# Altium schematic symbol library kmilo17pet-Maxim_Sensors.SchLib: 1172 symbols (part 31 of 61)
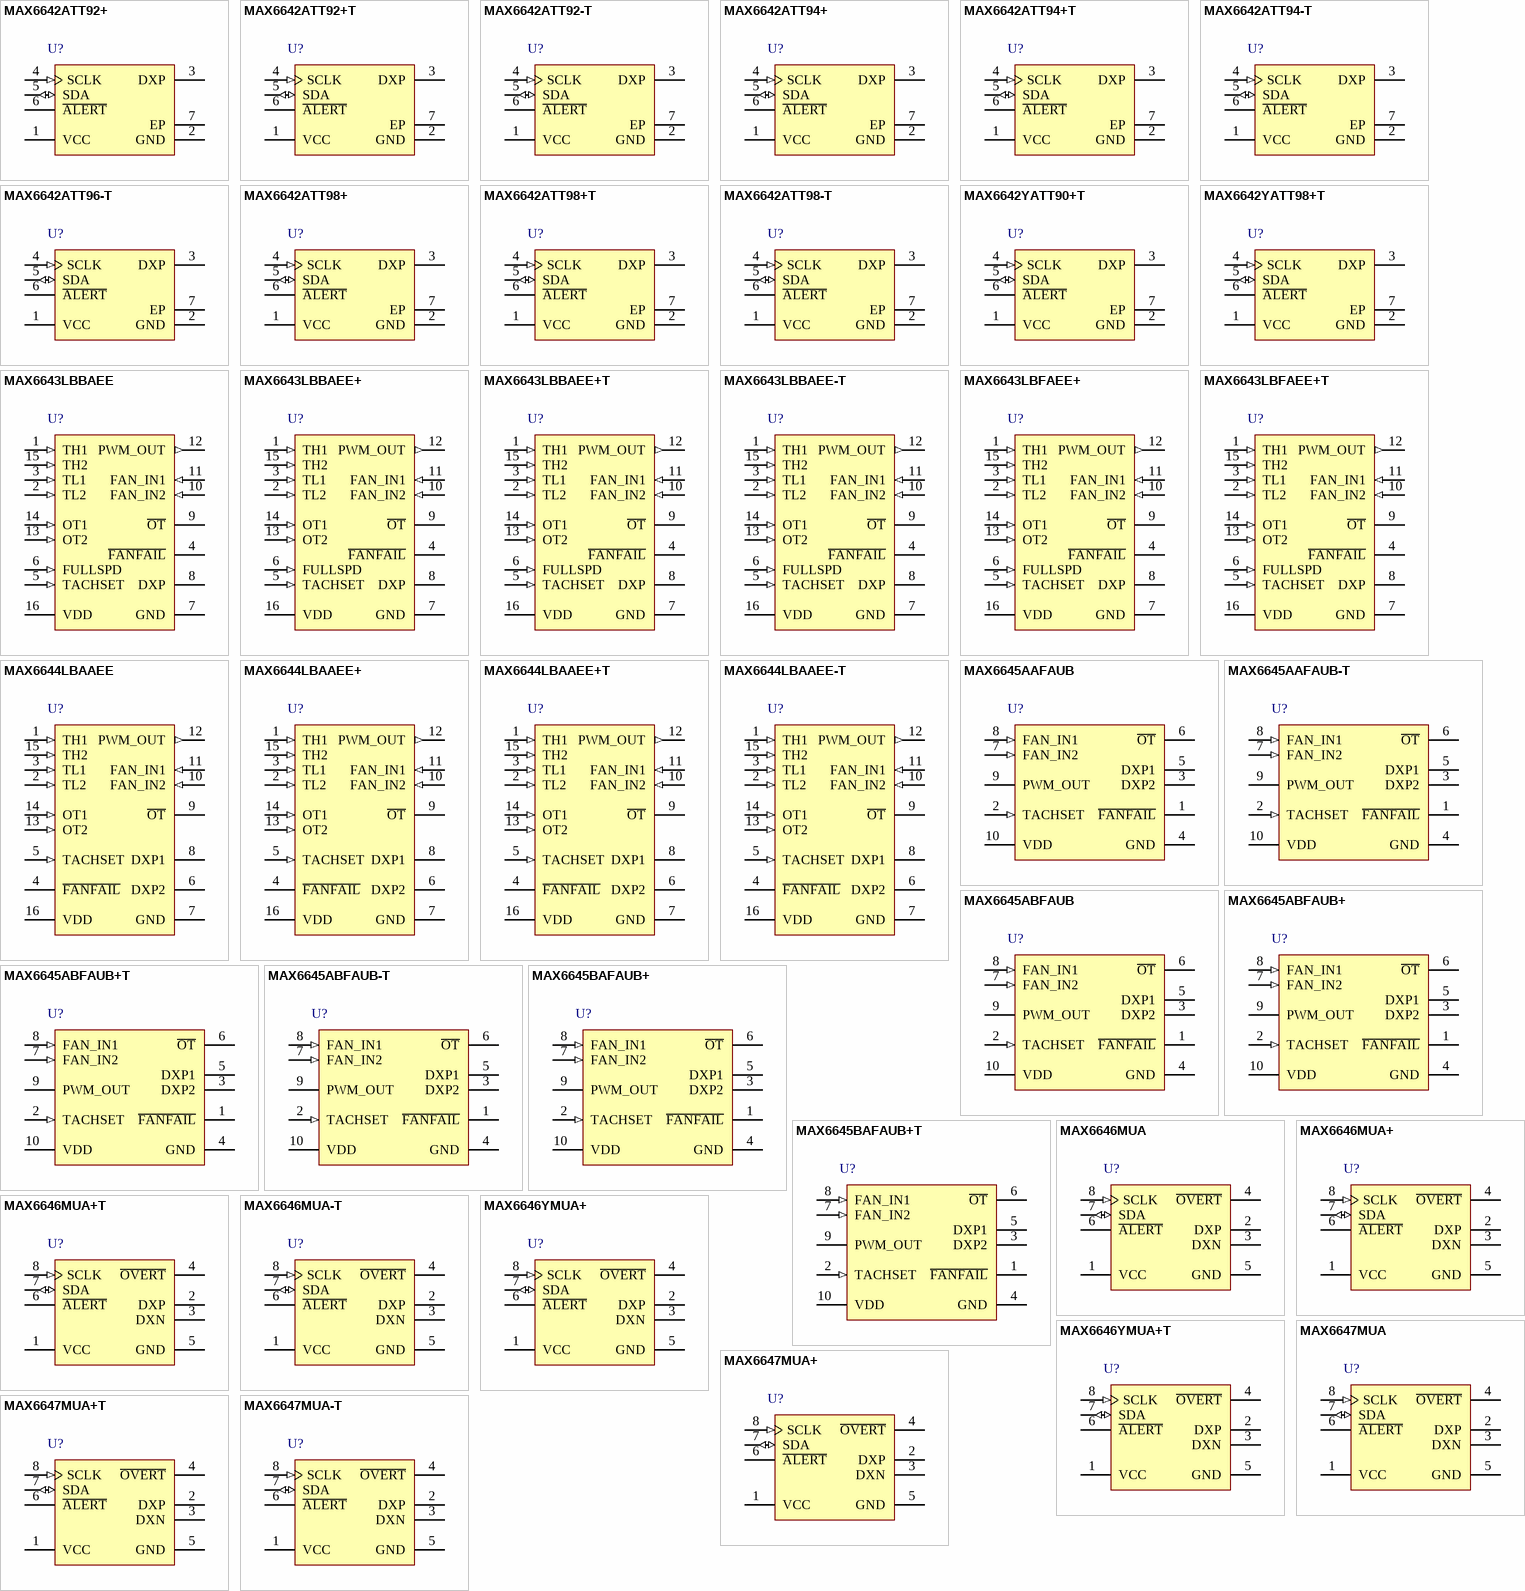
[diagram p63: symbols MAX6642ATT92+ to MAX6647MUA-T]

## MAX6642ATT92+
designator U?
+ / -1 degC, SMBus-Compatible Remote / Local Temperature Sensor with Overtemperature Alarm, 10 Bits Temperature Resolution, -40 to 125 degC, 6-Pin SON (T633+2), Pb-Free; Generic Part Number: MAX6642; PartNumber: MAX6642ATT92+; Alarm Output: Alert; Functions: Remote & Local Sensor, Single Temperature Alarm; Interface: 2-Wire/I2C/SMBus; Parasite Pwr.: No; DatasheetVersion: Rev. 3; PackageVersion: Rev. J, 08/2009; PackageReference: T633+2; PackageDescription: 6-Pin Plastic Very Very Thin Dual Flatpack No Leads, Exposed Pad, Body 3 x 3 mm, Exposed Pad 2.3 x 1.5 mm, Pitch 0.95 mm; Supplier 1: Mouser; Supplier Part Number 1: N/A; Mounting Technology: Surface Mount; Code_JEDEC: MO-229; ComponentLink1Description: Manufacturer URL; ComponentLink1URL: http://www.maximintegrated.com/; ComponentLink2Description: Datasheet; ComponentLink2URL: http://datasheets.maximintegrated.com/en/ds/MAX6642.pdf; ComponentLink3Description: Package Specification; ComponentLink3URL: http://pdfserv.maximintegrated.com/package_dwgs/21-0137.PDF
footprint MAXM-T633+2_V (SON, 6-Leads, Body 3x3mm, Pitch 0.95mm, Thermal Pad 2.3X1.5mm)
pins: 1 VCC (power) "Supply Voltage Input, +3V to +5.5V. Bypass VCC to GND with a 0.1uF capacitor. A 47ohm series resistor is recommended but not required for additional noise filtering.", 2 GND (power) "Ground", 3 DXP "Combined Remote-Diode Current Source and ADC Input for Remote-Diode Channel. Place a 2200pF capacitor between DXP and GND for noise filtering.", 4 SCLK (in) "SMBus Serial-Clock Input. May be pulled up to +5.5V regardless of VCC.", 5 SDA (io) "SMBus Serial-Data Input/Output, Open Drain. May be pulled up to +5.5V regardless of VCC.", 6 ~{ALERT} (oc) "SMBus Alert (Interrupt) Output, Open Drain. A\L\E\R\T\ asserts when temperature exceeds user-set limits. See the A\L\E\R\T\ Interrupts section.", 7 EP (power) "Exposed Pad. Internally connected to GND. Connect to a PCB ground pad for optimal performance. Not intended as an electrical connection point."

## MAX6642ATT92+T
designator U?
+ / -1 degC, SMBus-Compatible Remote / Local Temperature Sensor with Overtemperature Alarm, 10 Bits Temperature Resolution, -40 to 125 degC, 6-Pin SON (T633+2), Pb-Free, Tape and Reel; Generic Part Number: MAX6642; PartNumber: MAX6642ATT92+T; Alarm Output: Alert; Functions: Remote & Local Sensor, Single Temperature Alarm; Interface: 2-Wire/I2C/SMBus; Parasite Pwr.: No; DatasheetVersion: Rev. 3; PackageVersion: Rev. J, 08/2009; PackageReference: T633+2; PackageDescription: 6-Pin Plastic Very Very Thin Dual Flatpack No Leads, Exposed Pad, Body 3 x 3 mm, Exposed Pad 2.3 x 1.5 mm, Pitch 0.95 mm; Supplier 1: Digi-Key; Supplier Part Number 1: MAX6642ATT92+TTR-ND; Supplier 2: Digi-Key; Supplier Part Number 2: MAX6642ATT92+TCT-ND; Supplier 3: Digi-Key; Supplier Part Number 3: MAX6642ATT92+TDKR-ND; Supplier 4: Mouser; Supplier Part Number 4: 700-MAX6642ATT92T; Packing: Tape and Reel; Mounting Technology: Surface Mount; Code_JEDEC: MO-229; ComponentLink1Description: Manufacturer URL; ComponentLink1URL: http://www.maximintegrated.com/; ComponentLink2Description: Datasheet; ComponentLink2URL: http://datasheets.maximintegrated.com/en/ds/MAX6642.pdf; ComponentLink3Description: Package Specification; ComponentLink3URL: http://pdfserv.maximintegrated.com/package_dwgs/21-0137.PDF
footprint MAXM-T633+2_V (SON, 6-Leads, Body 3x3mm, Pitch 0.95mm, Thermal Pad 2.3X1.5mm)
pins: 1 VCC (power) "Supply Voltage Input, +3V to +5.5V. Bypass VCC to GND with a 0.1uF capacitor. A 47ohm series resistor is recommended but not required for additional noise filtering.", 2 GND (power) "Ground", 3 DXP "Combined Remote-Diode Current Source and ADC Input for Remote-Diode Channel. Place a 2200pF capacitor between DXP and GND for noise filtering.", 4 SCLK (in) "SMBus Serial-Clock Input. May be pulled up to +5.5V regardless of VCC.", 5 SDA (io) "SMBus Serial-Data Input/Output, Open Drain. May be pulled up to +5.5V regardless of VCC.", 6 ~{ALERT} (oc) "SMBus Alert (Interrupt) Output, Open Drain. A\L\E\R\T\ asserts when temperature exceeds user-set limits. See the A\L\E\R\T\ Interrupts section.", 7 EP (power) "Exposed Pad. Internally connected to GND. Connect to a PCB ground pad for optimal performance. Not intended as an electrical connection point."

## MAX6642ATT92-T
designator U?
+ / -1 degC, SMBus-Compatible Remote / Local Temperature Sensor with Overtemperature Alarm, 10 Bits Temperature Resolution, -40 to 125 degC, 6-Pin SON (T633-2), Tape and Reel; Generic Part Number: MAX6642; PartNumber: MAX6642ATT92-T; Alarm Output: Alert; Functions: Remote & Local Sensor, Single Temperature Alarm; Interface: 2-Wire/I2C/SMBus; Parasite Pwr.: No; DatasheetVersion: Rev. 3; PackageVersion: Rev. J, 08/2009; PackageReference: T633-2; PackageDescription: 6-Pin Plastic Very Very Thin Dual Flatpack No Leads, Exposed Pad, Body 3 x 3 mm, Exposed Pad 2.3 x 1.5 mm, Pitch 0.95 mm; Supplier 1: Mouser; Supplier Part Number 1: N/A; Packing: Tape and Reel; Mounting Technology: Surface Mount; Code_JEDEC: MO-229; ComponentLink1Description: Manufacturer URL; ComponentLink1URL: http://www.maximintegrated.com/; ComponentLink2Description: Datasheet; ComponentLink2URL: http://datasheets.maximintegrated.com/en/ds/MAX6642.pdf; ComponentLink3Description: Package Specification; ComponentLink3URL: http://pdfserv.maximintegrated.com/package_dwgs/21-0137.PDF
footprint MAXM-T633-2_V (SON, 6-Leads, Body 3x3mm, Pitch 0.95mm, Thermal Pad 1.5x2.3mm)
pins: 1 VCC (power) "Supply Voltage Input, +3V to +5.5V. Bypass VCC to GND with a 0.1uF capacitor. A 47ohm series resistor is recommended but not required for additional noise filtering.", 2 GND (power) "Ground", 3 DXP "Combined Remote-Diode Current Source and ADC Input for Remote-Diode Channel. Place a 2200pF capacitor between DXP and GND for noise filtering.", 4 SCLK (in) "SMBus Serial-Clock Input. May be pulled up to +5.5V regardless of VCC.", 5 SDA (io) "SMBus Serial-Data Input/Output, Open Drain. May be pulled up to +5.5V regardless of VCC.", 6 ~{ALERT} (oc) "SMBus Alert (Interrupt) Output, Open Drain. A\L\E\R\T\ asserts when temperature exceeds user-set limits. See the A\L\E\R\T\ Interrupts section.", 7 EP (power) "Exposed Pad. Internally connected to GND. Connect to a PCB ground pad for optimal performance. Not intended as an electrical connection point."

## MAX6642ATT94+
designator U?
+ / -1 degC, SMBus-Compatible Remote / Local Temperature Sensor with Overtemperature Alarm, 10 Bits Temperature Resolution, -40 to 125 degC, 6-Pin SON (T633+2), Pb-Free; Generic Part Number: MAX6642; PartNumber: MAX6642ATT94+; Alarm Output: Alert; Functions: Remote & Local Sensor, Single Temperature Alarm; Interface: 2-Wire/I2C/SMBus; Parasite Pwr.: No; DatasheetVersion: Rev. 3; PackageVersion: Rev. J, 08/2009; PackageReference: T633+2; PackageDescription: 6-Pin Plastic Very Very Thin Dual Flatpack No Leads, Exposed Pad, Body 3 x 3 mm, Exposed Pad 2.3 x 1.5 mm, Pitch 0.95 mm; Supplier 1: Mouser; Supplier Part Number 1: N/A; Mounting Technology: Surface Mount; Code_JEDEC: MO-229; ComponentLink1Description: Manufacturer URL; ComponentLink1URL: http://www.maximintegrated.com/; ComponentLink2Description: Datasheet; ComponentLink2URL: http://datasheets.maximintegrated.com/en/ds/MAX6642.pdf; ComponentLink3Description: Package Specification; ComponentLink3URL: http://pdfserv.maximintegrated.com/package_dwgs/21-0137.PDF
footprint MAXM-T633+2_V (SON, 6-Leads, Body 3x3mm, Pitch 0.95mm, Thermal Pad 2.3X1.5mm)
pins: 1 VCC (power) "Supply Voltage Input, +3V to +5.5V. Bypass VCC to GND with a 0.1uF capacitor. A 47ohm series resistor is recommended but not required for additional noise filtering.", 2 GND (power) "Ground", 3 DXP "Combined Remote-Diode Current Source and ADC Input for Remote-Diode Channel. Place a 2200pF capacitor between DXP and GND for noise filtering.", 4 SCLK (in) "SMBus Serial-Clock Input. May be pulled up to +5.5V regardless of VCC.", 5 SDA (io) "SMBus Serial-Data Input/Output, Open Drain. May be pulled up to +5.5V regardless of VCC.", 6 ~{ALERT} (oc) "SMBus Alert (Interrupt) Output, Open Drain. A\L\E\R\T\ asserts when temperature exceeds user-set limits. See the A\L\E\R\T\ Interrupts section.", 7 EP (power) "Exposed Pad. Internally connected to GND. Connect to a PCB ground pad for optimal performance. Not intended as an electrical connection point."

## MAX6642ATT94+T
designator U?
+ / -1 degC, SMBus-Compatible Remote / Local Temperature Sensor with Overtemperature Alarm, 10 Bits Temperature Resolution, -40 to 125 degC, 6-Pin SON (T633+2), Pb-Free, Tape and Reel; Generic Part Number: MAX6642; PartNumber: MAX6642ATT94+T; Alarm Output: Alert; Functions: Remote & Local Sensor, Single Temperature Alarm; Interface: 2-Wire/I2C/SMBus; Parasite Pwr.: No; DatasheetVersion: Rev. 3; PackageVersion: Rev. J, 08/2009; PackageReference: T633+2; PackageDescription: 6-Pin Plastic Very Very Thin Dual Flatpack No Leads, Exposed Pad, Body 3 x 3 mm, Exposed Pad 2.3 x 1.5 mm, Pitch 0.95 mm; Supplier 1: Digi-Key; Supplier Part Number 1: MAX6642ATT94+T-ND; Supplier 2: Mouser; Supplier Part Number 2: 700-MAX6642ATT94+T; Packing: Tape and Reel; Mounting Technology: Surface Mount; Code_JEDEC: MO-229; ComponentLink1Description: Manufacturer URL; ComponentLink1URL: http://www.maximintegrated.com/; ComponentLink2Description: Datasheet; ComponentLink2URL: http://datasheets.maximintegrated.com/en/ds/MAX6642.pdf; ComponentLink3Description: Package Specification; ComponentLink3URL: http://pdfserv.maximintegrated.com/package_dwgs/21-0137.PDF
footprint MAXM-T633+2_V (SON, 6-Leads, Body 3x3mm, Pitch 0.95mm, Thermal Pad 2.3X1.5mm)
pins: 1 VCC (power) "Supply Voltage Input, +3V to +5.5V. Bypass VCC to GND with a 0.1uF capacitor. A 47ohm series resistor is recommended but not required for additional noise filtering.", 2 GND (power) "Ground", 3 DXP "Combined Remote-Diode Current Source and ADC Input for Remote-Diode Channel. Place a 2200pF capacitor between DXP and GND for noise filtering.", 4 SCLK (in) "SMBus Serial-Clock Input. May be pulled up to +5.5V regardless of VCC.", 5 SDA (io) "SMBus Serial-Data Input/Output, Open Drain. May be pulled up to +5.5V regardless of VCC.", 6 ~{ALERT} (oc) "SMBus Alert (Interrupt) Output, Open Drain. A\L\E\R\T\ asserts when temperature exceeds user-set limits. See the A\L\E\R\T\ Interrupts section.", 7 EP (power) "Exposed Pad. Internally connected to GND. Connect to a PCB ground pad for optimal performance. Not intended as an electrical connection point."

## MAX6642ATT94-T
designator U?
+ / -1 degC, SMBus-Compatible Remote / Local Temperature Sensor with Overtemperature Alarm, 10 Bits Temperature Resolution, -40 to 125 degC, 6-Pin SON (T633-2), Tape and Reel; Generic Part Number: MAX6642; PartNumber: MAX6642ATT94-T; Alarm Output: Alert; Functions: Remote & Local Sensor, Single Temperature Alarm; Interface: 2-Wire/I2C/SMBus; Parasite Pwr.: No; DatasheetVersion: Rev. 3; PackageVersion: Rev. J, 08/2009; PackageReference: T633-2; PackageDescription: 6-Pin Plastic Very Very Thin Dual Flatpack No Leads, Exposed Pad, Body 3 x 3 mm, Exposed Pad 2.3 x 1.5 mm, Pitch 0.95 mm; Supplier 1: Mouser; Supplier Part Number 1: N/A; Packing: Tape and Reel; Mounting Technology: Surface Mount; Code_JEDEC: MO-229; ComponentLink1Description: Manufacturer URL; ComponentLink1URL: http://www.maximintegrated.com/; ComponentLink2Description: Datasheet; ComponentLink2URL: http://datasheets.maximintegrated.com/en/ds/MAX6642.pdf; ComponentLink3Description: Package Specification; ComponentLink3URL: http://pdfserv.maximintegrated.com/package_dwgs/21-0137.PDF
footprint MAXM-T633-2_V (SON, 6-Leads, Body 3x3mm, Pitch 0.95mm, Thermal Pad 1.5x2.3mm)
pins: 1 VCC (power) "Supply Voltage Input, +3V to +5.5V. Bypass VCC to GND with a 0.1uF capacitor. A 47ohm series resistor is recommended but not required for additional noise filtering.", 2 GND (power) "Ground", 3 DXP "Combined Remote-Diode Current Source and ADC Input for Remote-Diode Channel. Place a 2200pF capacitor between DXP and GND for noise filtering.", 4 SCLK (in) "SMBus Serial-Clock Input. May be pulled up to +5.5V regardless of VCC.", 5 SDA (io) "SMBus Serial-Data Input/Output, Open Drain. May be pulled up to +5.5V regardless of VCC.", 6 ~{ALERT} (oc) "SMBus Alert (Interrupt) Output, Open Drain. A\L\E\R\T\ asserts when temperature exceeds user-set limits. See the A\L\E\R\T\ Interrupts section.", 7 EP (power) "Exposed Pad. Internally connected to GND. Connect to a PCB ground pad for optimal performance. Not intended as an electrical connection point."

## MAX6642ATT96-T
designator U?
+ / -1 degC, SMBus-Compatible Remote / Local Temperature Sensor with Overtemperature Alarm, 10 Bits Temperature Resolution, -40 to 125 degC, 6-Pin SON (T633-2), Tape and Reel; Generic Part Number: MAX6642; PartNumber: MAX6642ATT96-T; Alarm Output: Alert; Functions: Remote & Local Sensor, Single Temperature Alarm; Interface: 2-Wire/I2C/SMBus; Parasite Pwr.: No; DatasheetVersion: Rev. 3; PackageVersion: Rev. J, 08/2009; PackageReference: T633-2; PackageDescription: 6-Pin Plastic Very Very Thin Dual Flatpack No Leads, Exposed Pad, Body 3 x 3 mm, Exposed Pad 2.3 x 1.5 mm, Pitch 0.95 mm; Supplier 1: Mouser; Supplier Part Number 1: N/A; Packing: Tape and Reel; Mounting Technology: Surface Mount; Code_JEDEC: MO-229; ComponentLink1Description: Manufacturer URL; ComponentLink1URL: http://www.maximintegrated.com/; ComponentLink2Description: Datasheet; ComponentLink2URL: http://datasheets.maximintegrated.com/en/ds/MAX6642.pdf; ComponentLink3Description: Package Specification; ComponentLink3URL: http://pdfserv.maximintegrated.com/package_dwgs/21-0137.PDF
footprint MAXM-T633-2_V (SON, 6-Leads, Body 3x3mm, Pitch 0.95mm, Thermal Pad 1.5x2.3mm)
pins: 1 VCC (power) "Supply Voltage Input, +3V to +5.5V. Bypass VCC to GND with a 0.1uF capacitor. A 47ohm series resistor is recommended but not required for additional noise filtering.", 2 GND (power) "Ground", 3 DXP "Combined Remote-Diode Current Source and ADC Input for Remote-Diode Channel. Place a 2200pF capacitor between DXP and GND for noise filtering.", 4 SCLK (in) "SMBus Serial-Clock Input. May be pulled up to +5.5V regardless of VCC.", 5 SDA (io) "SMBus Serial-Data Input/Output, Open Drain. May be pulled up to +5.5V regardless of VCC.", 6 ~{ALERT} (oc) "SMBus Alert (Interrupt) Output, Open Drain. A\L\E\R\T\ asserts when temperature exceeds user-set limits. See the A\L\E\R\T\ Interrupts section.", 7 EP (power) "Exposed Pad. Internally connected to GND. Connect to a PCB ground pad for optimal performance. Not intended as an electrical connection point."

## MAX6642ATT98+
designator U?
+ / -1 degC, SMBus-Compatible Remote / Local Temperature Sensor with Overtemperature Alarm, 10 Bits Temperature Resolution, -40 to 125 degC, 6-Pin SON (T633+2), Pb-Free; Generic Part Number: MAX6642; PartNumber: MAX6642ATT98+; Alarm Output: Alert; Functions: Remote & Local Sensor, Single Temperature Alarm; Interface: 2-Wire/I2C/SMBus; Parasite Pwr.: No; DatasheetVersion: Rev. 3; PackageVersion: Rev. J, 08/2009; PackageReference: T633+2; PackageDescription: 6-Pin Plastic Very Very Thin Dual Flatpack No Leads, Exposed Pad, Body 3 x 3 mm, Exposed Pad 2.3 x 1.5 mm, Pitch 0.95 mm; Supplier 1: Mouser; Supplier Part Number 1: N/A; Mounting Technology: Surface Mount; Code_JEDEC: MO-229; ComponentLink1Description: Manufacturer URL; ComponentLink1URL: http://www.maximintegrated.com/; ComponentLink2Description: Datasheet; ComponentLink2URL: http://datasheets.maximintegrated.com/en/ds/MAX6642.pdf; ComponentLink3Description: Package Specification; ComponentLink3URL: http://pdfserv.maximintegrated.com/package_dwgs/21-0137.PDF
footprint MAXM-T633+2_V (SON, 6-Leads, Body 3x3mm, Pitch 0.95mm, Thermal Pad 2.3X1.5mm)
pins: 1 VCC (power) "Supply Voltage Input, +3V to +5.5V. Bypass VCC to GND with a 0.1uF capacitor. A 47ohm series resistor is recommended but not required for additional noise filtering.", 2 GND (power) "Ground", 3 DXP "Combined Remote-Diode Current Source and ADC Input for Remote-Diode Channel. Place a 2200pF capacitor between DXP and GND for noise filtering.", 4 SCLK (in) "SMBus Serial-Clock Input. May be pulled up to +5.5V regardless of VCC.", 5 SDA (io) "SMBus Serial-Data Input/Output, Open Drain. May be pulled up to +5.5V regardless of VCC.", 6 ~{ALERT} (oc) "SMBus Alert (Interrupt) Output, Open Drain. A\L\E\R\T\ asserts when temperature exceeds user-set limits. See the A\L\E\R\T\ Interrupts section.", 7 EP (power) "Exposed Pad. Internally connected to GND. Connect to a PCB ground pad for optimal performance. Not intended as an electrical connection point."

## MAX6642ATT98+T
designator U?
+ / -1 degC, SMBus-Compatible Remote / Local Temperature Sensor with Overtemperature Alarm, 10 Bits Temperature Resolution, -40 to 125 degC, 6-Pin SON (T633+2), Pb-Free, Tape and Reel; Generic Part Number: MAX6642; PartNumber: MAX6642ATT98+T; Alarm Output: Alert; Functions: Remote & Local Sensor, Single Temperature Alarm; Interface: 2-Wire/I2C/SMBus; Parasite Pwr.: No; DatasheetVersion: Rev. 3; PackageVersion: Rev. J, 08/2009; PackageReference: T633+2; PackageDescription: 6-Pin Plastic Very Very Thin Dual Flatpack No Leads, Exposed Pad, Body 3 x 3 mm, Exposed Pad 2.3 x 1.5 mm, Pitch 0.95 mm; Supplier 1: Digi-Key; Supplier Part Number 1: MAX6642ATT98+T-ND; Supplier 2: Mouser; Supplier Part Number 2: 700-MAX6642ATT98T; Packing: Tape and Reel; Mounting Technology: Surface Mount; Code_JEDEC: MO-229; ComponentLink1Description: Manufacturer URL; ComponentLink1URL: http://www.maximintegrated.com/; ComponentLink2Description: Datasheet; ComponentLink2URL: http://datasheets.maximintegrated.com/en/ds/MAX6642.pdf; ComponentLink3Description: Package Specification; ComponentLink3URL: http://pdfserv.maximintegrated.com/package_dwgs/21-0137.PDF
footprint MAXM-T633+2_V (SON, 6-Leads, Body 3x3mm, Pitch 0.95mm, Thermal Pad 2.3X1.5mm)
pins: 1 VCC (power) "Supply Voltage Input, +3V to +5.5V. Bypass VCC to GND with a 0.1uF capacitor. A 47ohm series resistor is recommended but not required for additional noise filtering.", 2 GND (power) "Ground", 3 DXP "Combined Remote-Diode Current Source and ADC Input for Remote-Diode Channel. Place a 2200pF capacitor between DXP and GND for noise filtering.", 4 SCLK (in) "SMBus Serial-Clock Input. May be pulled up to +5.5V regardless of VCC.", 5 SDA (io) "SMBus Serial-Data Input/Output, Open Drain. May be pulled up to +5.5V regardless of VCC.", 6 ~{ALERT} (oc) "SMBus Alert (Interrupt) Output, Open Drain. A\L\E\R\T\ asserts when temperature exceeds user-set limits. See the A\L\E\R\T\ Interrupts section.", 7 EP (power) "Exposed Pad. Internally connected to GND. Connect to a PCB ground pad for optimal performance. Not intended as an electrical connection point."

## MAX6642ATT98-T
designator U?
+ / -1 degC, SMBus-Compatible Remote / Local Temperature Sensor with Overtemperature Alarm, 10 Bits Temperature Resolution, -40 to 125 degC, 6-Pin SON (T633-2), Tape and Reel; Generic Part Number: MAX6642; PartNumber: MAX6642ATT98-T; Alarm Output: Alert; Functions: Remote & Local Sensor, Single Temperature Alarm; Interface: 2-Wire/I2C/SMBus; Parasite Pwr.: No; DatasheetVersion: Rev. 3; PackageVersion: Rev. J, 08/2009; PackageReference: T633-2; PackageDescription: 6-Pin Plastic Very Very Thin Dual Flatpack No Leads, Exposed Pad, Body 3 x 3 mm, Exposed Pad 2.3 x 1.5 mm, Pitch 0.95 mm; Supplier 1: Mouser; Supplier Part Number 1: N/A; Packing: Tape and Reel; Mounting Technology: Surface Mount; Code_JEDEC: MO-229; ComponentLink1Description: Manufacturer URL; ComponentLink1URL: http://www.maximintegrated.com/; ComponentLink2Description: Datasheet; ComponentLink2URL: http://datasheets.maximintegrated.com/en/ds/MAX6642.pdf; ComponentLink3Description: Package Specification; ComponentLink3URL: http://pdfserv.maximintegrated.com/package_dwgs/21-0137.PDF
footprint MAXM-T633-2_V (SON, 6-Leads, Body 3x3mm, Pitch 0.95mm, Thermal Pad 1.5x2.3mm)
pins: 1 VCC (power) "Supply Voltage Input, +3V to +5.5V. Bypass VCC to GND with a 0.1uF capacitor. A 47ohm series resistor is recommended but not required for additional noise filtering.", 2 GND (power) "Ground", 3 DXP "Combined Remote-Diode Current Source and ADC Input for Remote-Diode Channel. Place a 2200pF capacitor between DXP and GND for noise filtering.", 4 SCLK (in) "SMBus Serial-Clock Input. May be pulled up to +5.5V regardless of VCC.", 5 SDA (io) "SMBus Serial-Data Input/Output, Open Drain. May be pulled up to +5.5V regardless of VCC.", 6 ~{ALERT} (oc) "SMBus Alert (Interrupt) Output, Open Drain. A\L\E\R\T\ asserts when temperature exceeds user-set limits. See the A\L\E\R\T\ Interrupts section.", 7 EP (power) "Exposed Pad. Internally connected to GND. Connect to a PCB ground pad for optimal performance. Not intended as an electrical connection point."

## MAX6642YATT90+T
designator U?
+ / -1 degC, SMBus-Compatible Remote / Local Temperature Sensor with Overtemperature Alarm, 10 Bits Temperature Resolution, -40 to 125 degC, 6-Pin SON (T633+2), Pb-Free, Tape and Reel; Generic Part Number: MAX6642; PartNumber: MAX6642YATT90+T; Alarm Output: Alert; Functions: Remote & Local Sensor, Single Temperature Alarm; Interface: 2-Wire/I2C/SMBus; Parasite Pwr.: No; DatasheetVersion: Rev. 3; PackageVersion: Rev. J, 08/2009; PackageReference: T633+2; PackageDescription: 6-Pin Plastic Very Very Thin Dual Flatpack No Leads, Exposed Pad, Body 3 x 3 mm, Exposed Pad 2.3 x 1.5 mm, Pitch 0.95 mm; Supplier 1: Digi-Key; Supplier Part Number 1: MAX6642YATT90+T-ND; Supplier 2: Mouser; Supplier Part Number 2: 700-MAX6642YATT90T; Packing: Tape and Reel; Mounting Technology: Surface Mount; Code_JEDEC: MO-229; ComponentLink1Description: Manufacturer URL; ComponentLink1URL: http://www.maximintegrated.com/; ComponentLink2Description: Datasheet; ComponentLink2URL: http://datasheets.maximintegrated.com/en/ds/MAX6642.pdf; ComponentLink3Description: Package Specification; ComponentLink3URL: http://pdfserv.maximintegrated.com/package_dwgs/21-0137.PDF
footprint MAXM-T633+2_V (SON, 6-Leads, Body 3x3mm, Pitch 0.95mm, Thermal Pad 2.3X1.5mm)
pins: 1 VCC (power) "Supply Voltage Input, +3V to +5.5V. Bypass VCC to GND with a 0.1uF capacitor. A 47ohm series resistor is recommended but not required for additional noise filtering.", 2 GND (power) "Ground", 3 DXP "Combined Remote-Diode Current Source and ADC Input for Remote-Diode Channel. Place a 2200pF capacitor between DXP and GND for noise filtering.", 4 SCLK (in) "SMBus Serial-Clock Input. May be pulled up to +5.5V regardless of VCC.", 5 SDA (io) "SMBus Serial-Data Input/Output, Open Drain. May be pulled up to +5.5V regardless of VCC.", 6 ~{ALERT} (oc) "SMBus Alert (Interrupt) Output, Open Drain. A\L\E\R\T\ asserts when temperature exceeds user-set limits. See the A\L\E\R\T\ Interrupts section.", 7 EP (power) "Exposed Pad. Internally connected to GND. Connect to a PCB ground pad for optimal performance. Not intended as an electrical connection point."

## MAX6642YATT98+T
designator U?
+ / -1 degC, SMBus-Compatible Remote / Local Temperature Sensor with Overtemperature Alarm, 10 Bits Temperature Resolution, -40 to 125 degC, 6-Pin SON (T633+2), Pb-Free, Tape and Reel; Generic Part Number: MAX6642; PartNumber: MAX6642YATT98+T; Alarm Output: Alert; Functions: Remote & Local Sensor, Single Temperature Alarm; Interface: 2-Wire/I2C/SMBus; Parasite Pwr.: No; DatasheetVersion: Rev. 3; PackageVersion: Rev. J, 08/2009; PackageReference: T633+2; PackageDescription: 6-Pin Plastic Very Very Thin Dual Flatpack No Leads, Exposed Pad, Body 3 x 3 mm, Exposed Pad 2.3 x 1.5 mm, Pitch 0.95 mm; Supplier 1: Digi-Key; Supplier Part Number 1: MAX6642YATT98+T-ND; Supplier 2: Mouser; Supplier Part Number 2: 700-MAX6642YATT98T; Packing: Tape and Reel; Mounting Technology: Surface Mount; Code_JEDEC: MO-229; ComponentLink1Description: Manufacturer URL; ComponentLink1URL: http://www.maximintegrated.com/; ComponentLink2Description: Datasheet; ComponentLink2URL: http://datasheets.maximintegrated.com/en/ds/MAX6642.pdf; ComponentLink3Description: Package Specification; ComponentLink3URL: http://pdfserv.maximintegrated.com/package_dwgs/21-0137.PDF
footprint MAXM-T633+2_V (SON, 6-Leads, Body 3x3mm, Pitch 0.95mm, Thermal Pad 2.3X1.5mm)
pins: 1 VCC (power) "Supply Voltage Input, +3V to +5.5V. Bypass VCC to GND with a 0.1uF capacitor. A 47ohm series resistor is recommended but not required for additional noise filtering.", 2 GND (power) "Ground", 3 DXP "Combined Remote-Diode Current Source and ADC Input for Remote-Diode Channel. Place a 2200pF capacitor between DXP and GND for noise filtering.", 4 SCLK (in) "SMBus Serial-Clock Input. May be pulled up to +5.5V regardless of VCC.", 5 SDA (io) "SMBus Serial-Data Input/Output, Open Drain. May be pulled up to +5.5V regardless of VCC.", 6 ~{ALERT} (oc) "SMBus Alert (Interrupt) Output, Open Drain. A\L\E\R\T\ asserts when temperature exceeds user-set limits. See the A\L\E\R\T\ Interrupts section.", 7 EP (power) "Exposed Pad. Internally connected to GND. Connect to a PCB ground pad for optimal performance. Not intended as an electrical connection point."

## MAX6643LBBAEE
designator U?
Automatic PWM Fan-Speed Controllers with Overtemperature Output, -40 to 125 degC, 16-Pin SOP (E16-1); Generic Part Number: MAX6643; PartNumber: MAX6643LBBAEE; DatasheetVersion: Rev. 2; PackageVersion: Rev. K, 04/2012; PackageReference: E16-1; PackageDescription: 16-Pin Quarter Small-Outline Package (E16-1), Body 4.90 x 3.89 mm, Pitch 0.635 mm; Supplier 1: Mouser; Supplier Part Number 1: N/A; Fan Cntrl.: PWM; Mounting Technology: Surface Mount; Code_JEDEC: MO137; ComponentLink1Description: Manufacturer URL; ComponentLink1URL: http://www.maximintegrated.com/; ComponentLink2Description: Datasheet; ComponentLink2URL: http://datasheets.maximintegrated.com/en/ds/MAX6643-MAX6645.pdf; ComponentLink3Description: Package Specification; ComponentLink3URL: http://pdfserv.maximintegrated.com/package_dwgs/21-0055.PDF
footprint MAXM-E16-1_N (SOP, 16-Leads, Body 4.9x3.89mm, Pitch 0.635mm, IPC Medium Density)
footprint MAXM-E16-1_L (SOP, 16-Leads, Body 4.9x3.89mm, Pitch 0.635mm, IPC High Density)
footprint MAXM-E16-1_M (SOP, 16-Leads, Body 4.9x3.89mm, Pitch 0.635mm, IPC Low Density)
pins: 1 TH1 (in) "High-Temperature Threshold Inputs. Connect to VDD, GND, or leave unconnected to select the upper fan-control trip temperature (THIGH), in 5degreesC increments. See Table 1.", 2 TL2 (in) "Low-Temperature Threshold Inputs. Connect to VDD, GND, or leave unconnected to select the lower fan-control trip temperature (TLOW), in 5degreesC increments. See Table 2.", 3 TL1 (in) "Low-Temperature Threshold Inputs. Connect to VDD, GND, or leave unconnected to select the lower fan-control trip temperature (TLOW), in 5degreesC increments. See Table 2.", 4 ~{FANFAIL} (oc) "Fan-Fail Alarm Output. F\A\N\F\A\I\L\ is an active-low, open-drain output. If the FAN_IN_ detects a fan failure, the F\A\N\F\A\I\L\ output asserts low.", 5 TACHSET (in) "FAN_IN_ Control Input. TACHSET controls what type of fan-fail condition is being detected. Connect TACHSET to VDD, GND, or leave floating to set locked rotor, current sense, or tachometer configurations (see Table 3).", 6 FULLSPD (in) "Active-High Logic Input. When pulled high, the fan runs at 100% duty cycle.", 7 GND (power) "Ground", 8 DXP "Combined Current Source and A/D Positive Input for Remote   Diode. Connect to anode of remote diode-connected    temperature-sensing transistor. Connect to GND i f no remote    diode is used. Place a 2200pF capacitor between (See Datasheet)", 9 ~{OT} (oc) "Active-Low, Open-Drain Overtemperature Output. When O\T\ threshold is exceeded, O\T\ pulls low.", 10 FAN_IN2 (in) "Fan- Sense Input. FAN_ IN_can be configured to monitor either a fan’ s log ic- level locked - rotor output, tachometer output, or senser esistor waveform to d etect fan fai lure. The MAX6643’ s FAN_IN_input can monitor only (See Datasheet)", 11 FAN_IN1 (in) "Fan- Sense Input. FAN_ IN_can be configured to monitor either a fan’ s log ic- level locked - rotor output, tachometer output, or senser esistor waveform to d etect fan fai lure. The MAX6643’ s FAN_IN_input can monitor only (See Datasheet)", 12 PWM_OUT (out) "PWM Output for Driving External Power Transistor. Connect to the gate of an n-channel MOSFET or to the base of an npn. PWM_OUT requires a pullup resistor. The pullup resistor can be connected to a supply voltage as high as 5.(See Datasheet)", 13 OT2 (in) "Overtemperature Threshold Inputs. Connect to VDD, GND, or leave unconnected to select the upper-limit O\T\ fault output trip temperature, in 5 degC increments. See Table 4.", 14 OT1 (in) "Overtemperature Threshold Inputs. Connect to VDD, GND, or leave unconnected to select the upper-limit O\T\ fault output trip temperature, in 5 degC increments. See Table 4.", 15 TH2 (in) "High-Temperature Threshold Inputs. Connect to VDD, GND, or leave unconnected to select the upper fan-control trip temperature (THIGH), in 5degreesC increments. See Table 1.", 16 VDD (power) "Power-Supply Input. 3.3V nominal. Bypass VDD to GND with a 0.1uF capacitor."

## MAX6643LBBAEE+
designator U?
Automatic PWM Fan-Speed Controllers with Overtemperature Output, -40 to 125 degC, 16-Pin SOP (E16+1), Pb-Free; Generic Part Number: MAX6643; PartNumber: MAX6643LBBAEE+; DatasheetVersion: Rev. 2; PackageVersion: Rev. K, 04/2012; PackageReference: E16+1; PackageDescription: 16-Pin Quarter Small-Outline Package (E16+1), Body 4.90 x 3.89 mm, Pitch 0.635 mm; Supplier 1: Digi-Key; Supplier Part Number 1: MAX6643LBBAEE+-ND; Supplier 2: Mouser; Supplier Part Number 2: 700-MAX6643LBBAEE; Fan Cntrl.: PWM; Mounting Technology: Surface Mount; Code_JEDEC: MO137; ComponentLink1Description: Manufacturer URL; ComponentLink1URL: http://www.maximintegrated.com/; ComponentLink2Description: Datasheet; ComponentLink2URL: http://datasheets.maximintegrated.com/en/ds/MAX6643-MAX6645.pdf; ComponentLink3Description: Package Specification; ComponentLink3URL: http://pdfserv.maximintegrated.com/package_dwgs/21-0055.PDF
footprint MAXM-E16+1_N (SOP, 16-Leads, Body 4.9x3.89mm, Pitch 0.635mm, IPC Medium Density)
footprint MAXM-E16+1_L (SOP, 16-Leads, Body 4.9x3.89mm, Pitch 0.635mm, IPC High Density)
footprint MAXM-E16+1_M (SOP, 16-Leads, Body 4.9x3.89mm, Pitch 0.635mm, IPC Low Density)
pins: 1 TH1 (in) "High-Temperature Threshold Inputs. Connect to VDD, GND, or leave unconnected to select the upper fan-control trip temperature (THIGH), in 5degreesC increments. See Table 1.", 2 TL2 (in) "Low-Temperature Threshold Inputs. Connect to VDD, GND, or leave unconnected to select the lower fan-control trip temperature (TLOW), in 5degreesC increments. See Table 2.", 3 TL1 (in) "Low-Temperature Threshold Inputs. Connect to VDD, GND, or leave unconnected to select the lower fan-control trip temperature (TLOW), in 5degreesC increments. See Table 2.", 4 ~{FANFAIL} (oc) "Fan-Fail Alarm Output. F\A\N\F\A\I\L\ is an active-low, open-drain output. If the FAN_IN_ detects a fan failure, the F\A\N\F\A\I\L\ output asserts low.", 5 TACHSET (in) "FAN_IN_ Control Input. TACHSET controls what type of fan-fail condition is being detected. Connect TACHSET to VDD, GND, or leave floating to set locked rotor, current sense, or tachometer configurations (see Table 3).", 6 FULLSPD (in) "Active-High Logic Input. When pulled high, the fan runs at 100% duty cycle.", 7 GND (power) "Ground", 8 DXP "Combined Current Source and A/D Positive Input for Remote   Diode. Connect to anode of remote diode-connected    temperature-sensing transistor. Connect to GND i f no remote    diode is used. Place a 2200pF capacitor between (See Datasheet)", 9 ~{OT} (oc) "Active-Low, Open-Drain Overtemperature Output. When O\T\ threshold is exceeded, O\T\ pulls low.", 10 FAN_IN2 (in) "Fan- Sense Input. FAN_ IN_can be configured to monitor either a fan’ s log ic- level locked - rotor output, tachometer output, or senser esistor waveform to d etect fan fai lure. The MAX6643’ s FAN_IN_input can monitor only (See Datasheet)", 11 FAN_IN1 (in) "Fan- Sense Input. FAN_ IN_can be configured to monitor either a fan’ s log ic- level locked - rotor output, tachometer output, or senser esistor waveform to d etect fan fai lure. The MAX6643’ s FAN_IN_input can monitor only (See Datasheet)", 12 PWM_OUT (out) "PWM Output for Driving External Power Transistor. Connect to the gate of an n-channel MOSFET or to the base of an npn. PWM_OUT requires a pullup resistor. The pullup resistor can be connected to a supply voltage as high as 5.(See Datasheet)", 13 OT2 (in) "Overtemperature Threshold Inputs. Connect to VDD, GND, or leave unconnected to select the upper-limit O\T\ fault output trip temperature, in 5 degC increments. See Table 4.", 14 OT1 (in) "Overtemperature Threshold Inputs. Connect to VDD, GND, or leave unconnected to select the upper-limit O\T\ fault output trip temperature, in 5 degC increments. See Table 4.", 15 TH2 (in) "High-Temperature Threshold Inputs. Connect to VDD, GND, or leave unconnected to select the upper fan-control trip temperature (THIGH), in 5degreesC increments. See Table 1.", 16 VDD (power) "Power-Supply Input. 3.3V nominal. Bypass VDD to GND with a 0.1uF capacitor."

## MAX6643LBBAEE+T
designator U?
Automatic PWM Fan-Speed Controllers with Overtemperature Output, -40 to 125 degC, 16-Pin SOP (E16+1), Pb-Free, Tape and Reel; Generic Part Number: MAX6643; PartNumber: MAX6643LBBAEE+T; DatasheetVersion: Rev. 2; PackageVersion: Rev. K, 04/2012; PackageReference: E16+1; PackageDescription: 16-Pin Quarter Small-Outline Package (E16+1), Body 4.90 x 3.89 mm, Pitch 0.635 mm; Supplier 1: Digi-Key; Supplier Part Number 1: MAX6643LBBAEE+T-ND; Supplier 2: Mouser; Supplier Part Number 2: 700-MAX6643LBBAEET; Fan Cntrl.: PWM; Packing: Tape and Reel; Mounting Technology: Surface Mount; Code_JEDEC: MO137; ComponentLink1Description: Manufacturer URL; ComponentLink1URL: http://www.maximintegrated.com/; ComponentLink2Description: Datasheet; ComponentLink2URL: http://datasheets.maximintegrated.com/en/ds/MAX6643-MAX6645.pdf; ComponentLink3Description: Package Specification; ComponentLink3URL: http://pdfserv.maximintegrated.com/package_dwgs/21-0055.PDF
footprint MAXM-E16+1_N (SOP, 16-Leads, Body 4.9x3.89mm, Pitch 0.635mm, IPC Medium Density)
footprint MAXM-E16+1_L (SOP, 16-Leads, Body 4.9x3.89mm, Pitch 0.635mm, IPC High Density)
footprint MAXM-E16+1_M (SOP, 16-Leads, Body 4.9x3.89mm, Pitch 0.635mm, IPC Low Density)
pins: 1 TH1 (in) "High-Temperature Threshold Inputs. Connect to VDD, GND, or leave unconnected to select the upper fan-control trip temperature (THIGH), in 5degreesC increments. See Table 1.", 2 TL2 (in) "Low-Temperature Threshold Inputs. Connect to VDD, GND, or leave unconnected to select the lower fan-control trip temperature (TLOW), in 5degreesC increments. See Table 2.", 3 TL1 (in) "Low-Temperature Threshold Inputs. Connect to VDD, GND, or leave unconnected to select the lower fan-control trip temperature (TLOW), in 5degreesC increments. See Table 2.", 4 ~{FANFAIL} (oc) "Fan-Fail Alarm Output. F\A\N\F\A\I\L\ is an active-low, open-drain output. If the FAN_IN_ detects a fan failure, the F\A\N\F\A\I\L\ output asserts low.", 5 TACHSET (in) "FAN_IN_ Control Input. TACHSET controls what type of fan-fail condition is being detected. Connect TACHSET to VDD, GND, or leave floating to set locked rotor, current sense, or tachometer configurations (see Table 3).", 6 FULLSPD (in) "Active-High Logic Input. When pulled high, the fan runs at 100% duty cycle.", 7 GND (power) "Ground", 8 DXP "Combined Current Source and A/D Positive Input for Remote   Diode. Connect to anode of remote diode-connected    temperature-sensing transistor. Connect to GND i f no remote    diode is used. Place a 2200pF capacitor between (See Datasheet)", 9 ~{OT} (oc) "Active-Low, Open-Drain Overtemperature Output. When O\T\ threshold is exceeded, O\T\ pulls low.", 10 FAN_IN2 (in) "Fan- Sense Input. FAN_ IN_can be configured to monitor either a fan’ s log ic- level locked - rotor output, tachometer output, or senser esistor waveform to d etect fan fai lure. The MAX6643’ s FAN_IN_input can monitor only (See Datasheet)", 11 FAN_IN1 (in) "Fan- Sense Input. FAN_ IN_can be configured to monitor either a fan’ s log ic- level locked - rotor output, tachometer output, or senser esistor waveform to d etect fan fai lure. The MAX6643’ s FAN_IN_input can monitor only (See Datasheet)", 12 PWM_OUT (out) "PWM Output for Driving External Power Transistor. Connect to the gate of an n-channel MOSFET or to the base of an npn. PWM_OUT requires a pullup resistor. The pullup resistor can be connected to a supply voltage as high as 5.(See Datasheet)", 13 OT2 (in) "Overtemperature Threshold Inputs. Connect to VDD, GND, or leave unconnected to select the upper-limit O\T\ fault output trip temperature, in 5 degC increments. See Table 4.", 14 OT1 (in) "Overtemperature Threshold Inputs. Connect to VDD, GND, or leave unconnected to select the upper-limit O\T\ fault output trip temperature, in 5 degC increments. See Table 4.", 15 TH2 (in) "High-Temperature Threshold Inputs. Connect to VDD, GND, or leave unconnected to select the upper fan-control trip temperature (THIGH), in 5degreesC increments. See Table 1.", 16 VDD (power) "Power-Supply Input. 3.3V nominal. Bypass VDD to GND with a 0.1uF capacitor."

## MAX6643LBBAEE-T
designator U?
Automatic PWM Fan-Speed Controllers with Overtemperature Output, -40 to 125 degC, 16-Pin SOP (E16-1), Tape and Reel; Generic Part Number: MAX6643; PartNumber: MAX6643LBBAEE-T; DatasheetVersion: Rev. 2; PackageVersion: Rev. K, 04/2012; PackageReference: E16-1; PackageDescription: 16-Pin Quarter Small-Outline Package (E16-1), Body 4.90 x 3.89 mm, Pitch 0.635 mm; Supplier 1: Mouser; Supplier Part Number 1: N/A; Fan Cntrl.: PWM; Packing: Tape and Reel; Mounting Technology: Surface Mount; Code_JEDEC: MO137; ComponentLink1Description: Manufacturer URL; ComponentLink1URL: http://www.maximintegrated.com/; ComponentLink2Description: Datasheet; ComponentLink2URL: http://datasheets.maximintegrated.com/en/ds/MAX6643-MAX6645.pdf; ComponentLink3Description: Package Specification; ComponentLink3URL: http://pdfserv.maximintegrated.com/package_dwgs/21-0055.PDF
footprint MAXM-E16-1_N (SOP, 16-Leads, Body 4.9x3.89mm, Pitch 0.635mm, IPC Medium Density)
footprint MAXM-E16-1_L (SOP, 16-Leads, Body 4.9x3.89mm, Pitch 0.635mm, IPC High Density)
footprint MAXM-E16-1_M (SOP, 16-Leads, Body 4.9x3.89mm, Pitch 0.635mm, IPC Low Density)
pins: 1 TH1 (in) "High-Temperature Threshold Inputs. Connect to VDD, GND, or leave unconnected to select the upper fan-control trip temperature (THIGH), in 5degreesC increments. See Table 1.", 2 TL2 (in) "Low-Temperature Threshold Inputs. Connect to VDD, GND, or leave unconnected to select the lower fan-control trip temperature (TLOW), in 5degreesC increments. See Table 2.", 3 TL1 (in) "Low-Temperature Threshold Inputs. Connect to VDD, GND, or leave unconnected to select the lower fan-control trip temperature (TLOW), in 5degreesC increments. See Table 2.", 4 ~{FANFAIL} (oc) "Fan-Fail Alarm Output. F\A\N\F\A\I\L\ is an active-low, open-drain output. If the FAN_IN_ detects a fan failure, the F\A\N\F\A\I\L\ output asserts low.", 5 TACHSET (in) "FAN_IN_ Control Input. TACHSET controls what type of fan-fail condition is being detected. Connect TACHSET to VDD, GND, or leave floating to set locked rotor, current sense, or tachometer configurations (see Table 3).", 6 FULLSPD (in) "Active-High Logic Input. When pulled high, the fan runs at 100% duty cycle.", 7 GND (power) "Ground", 8 DXP "Combined Current Source and A/D Positive Input for Remote   Diode. Connect to anode of remote diode-connected    temperature-sensing transistor. Connect to GND i f no remote    diode is used. Place a 2200pF capacitor between (See Datasheet)", 9 ~{OT} (oc) "Active-Low, Open-Drain Overtemperature Output. When O\T\ threshold is exceeded, O\T\ pulls low.", 10 FAN_IN2 (in) "Fan- Sense Input. FAN_ IN_can be configured to monitor either a fan’ s log ic- level locked - rotor output, tachometer output, or senser esistor waveform to d etect fan fai lure. The MAX6643’ s FAN_IN_input can monitor only (See Datasheet)", 11 FAN_IN1 (in) "Fan- Sense Input. FAN_ IN_can be configured to monitor either a fan’ s log ic- level locked - rotor output, tachometer output, or senser esistor waveform to d etect fan fai lure. The MAX6643’ s FAN_IN_input can monitor only (See Datasheet)", 12 PWM_OUT (out) "PWM Output for Driving External Power Transistor. Connect to the gate of an n-channel MOSFET or to the base of an npn. PWM_OUT requires a pullup resistor. The pullup resistor can be connected to a supply voltage as high as 5.(See Datasheet)", 13 OT2 (in) "Overtemperature Threshold Inputs. Connect to VDD, GND, or leave unconnected to select the upper-limit O\T\ fault output trip temperature, in 5 degC increments. See Table 4.", 14 OT1 (in) "Overtemperature Threshold Inputs. Connect to VDD, GND, or leave unconnected to select the upper-limit O\T\ fault output trip temperature, in 5 degC increments. See Table 4.", 15 TH2 (in) "High-Temperature Threshold Inputs. Connect to VDD, GND, or leave unconnected to select the upper fan-control trip temperature (THIGH), in 5degreesC increments. See Table 1.", 16 VDD (power) "Power-Supply Input. 3.3V nominal. Bypass VDD to GND with a 0.1uF capacitor."

## MAX6643LBFAEE+
designator U?
Automatic PWM Fan-Speed Controllers with Overtemperature Output, -40 to 125 degC, 16-Pin SOP (E16+1), Pb-Free; Generic Part Number: MAX6643; PartNumber: MAX6643LBFAEE+; DatasheetVersion: Rev. 2; PackageVersion: Rev. K, 04/2012; PackageReference: E16+1; PackageDescription: 16-Pin Quarter Small-Outline Package (E16+1), Body 4.90 x 3.89 mm, Pitch 0.635 mm; Supplier 1: Digi-Key; Supplier Part Number 1: MAX6643LBFAEE+-ND; Supplier 2: Mouser; Supplier Part Number 2: 700-MAX6643LBFAEE+; Fan Cntrl.: PWM; Mounting Technology: Surface Mount; Code_JEDEC: MO137; ComponentLink1Description: Manufacturer URL; ComponentLink1URL: http://www.maximintegrated.com/; ComponentLink2Description: Datasheet; ComponentLink2URL: http://datasheets.maximintegrated.com/en/ds/MAX6643-MAX6645.pdf; ComponentLink3Description: Package Specification; ComponentLink3URL: http://pdfserv.maximintegrated.com/package_dwgs/21-0055.PDF
footprint MAXM-E16+1_N (SOP, 16-Leads, Body 4.9x3.89mm, Pitch 0.635mm, IPC Medium Density)
footprint MAXM-E16+1_L (SOP, 16-Leads, Body 4.9x3.89mm, Pitch 0.635mm, IPC High Density)
footprint MAXM-E16+1_M (SOP, 16-Leads, Body 4.9x3.89mm, Pitch 0.635mm, IPC Low Density)
pins: 1 TH1 (in) "High-Temperature Threshold Inputs. Connect to VDD, GND, or leave unconnected to select the upper fan-control trip temperature (THIGH), in 5degreesC increments. See Table 1.", 2 TL2 (in) "Low-Temperature Threshold Inputs. Connect to VDD, GND, or leave unconnected to select the lower fan-control trip temperature (TLOW), in 5degreesC increments. See Table 2.", 3 TL1 (in) "Low-Temperature Threshold Inputs. Connect to VDD, GND, or leave unconnected to select the lower fan-control trip temperature (TLOW), in 5degreesC increments. See Table 2.", 4 ~{FANFAIL} (oc) "Fan-Fail Alarm Output. F\A\N\F\A\I\L\ is an active-low, open-drain output. If the FAN_IN_ detects a fan failure, the F\A\N\F\A\I\L\ output asserts low.", 5 TACHSET (in) "FAN_IN_ Control Input. TACHSET controls what type of fan-fail condition is being detected. Connect TACHSET to VDD, GND, or leave floating to set locked rotor, current sense, or tachometer configurations (see Table 3).", 6 FULLSPD (in) "Active-High Logic Input. When pulled high, the fan runs at 100% duty cycle.", 7 GND (power) "Ground", 8 DXP "Combined Current Source and A/D Positive Input for Remote   Diode. Connect to anode of remote diode-connected    temperature-sensing transistor. Connect to GND i f no remote    diode is used. Place a 2200pF capacitor between (See Datasheet)", 9 ~{OT} (oc) "Active-Low, Open-Drain Overtemperature Output. When O\T\ threshold is exceeded, O\T\ pulls low.", 10 FAN_IN2 (in) "Fan- Sense Input. FAN_ IN_can be configured to monitor either a fan’ s log ic- level locked - rotor output, tachometer output, or senser esistor waveform to d etect fan fai lure. The MAX6643’ s FAN_IN_input can monitor only (See Datasheet)", 11 FAN_IN1 (in) "Fan- Sense Input. FAN_ IN_can be configured to monitor either a fan’ s log ic- level locked - rotor output, tachometer output, or senser esistor waveform to d etect fan fai lure. The MAX6643’ s FAN_IN_input can monitor only (See Datasheet)", 12 PWM_OUT (out) "PWM Output for Driving External Power Transistor. Connect to the gate of an n-channel MOSFET or to the base of an npn. PWM_OUT requires a pullup resistor. The pullup resistor can be connected to a supply voltage as high as 5.(See Datasheet)", 13 OT2 (in) "Overtemperature Threshold Inputs. Connect to VDD, GND, or leave unconnected to select the upper-limit O\T\ fault output trip temperature, in 5 degC increments. See Table 4.", 14 OT1 (in) "Overtemperature Threshold Inputs. Connect to VDD, GND, or leave unconnected to select the upper-limit O\T\ fault output trip temperature, in 5 degC increments. See Table 4.", 15 TH2 (in) "High-Temperature Threshold Inputs. Connect to VDD, GND, or leave unconnected to select the upper fan-control trip temperature (THIGH), in 5degreesC increments. See Table 1.", 16 VDD (power) "Power-Supply Input. 3.3V nominal. Bypass VDD to GND with a 0.1uF capacitor."

## MAX6643LBFAEE+T
designator U?
Automatic PWM Fan-Speed Controllers with Overtemperature Output, -40 to 125 degC, 16-Pin SOP (E16+1), Pb-Free, Tape and Reel; Generic Part Number: MAX6643; PartNumber: MAX6643LBFAEE+T; DatasheetVersion: Rev. 2; PackageVersion: Rev. K, 04/2012; PackageReference: E16+1; PackageDescription: 16-Pin Quarter Small-Outline Package (E16+1), Body 4.90 x 3.89 mm, Pitch 0.635 mm; Supplier 1: Digi-Key; Supplier Part Number 1: MAX6643LBFAEE+T-ND; Supplier 2: Mouser; Supplier Part Number 2: 700-MAX6643LBFAEE+T; Fan Cntrl.: PWM; Packing: Tape and Reel; Mounting Technology: Surface Mount; Code_JEDEC: MO137; ComponentLink1Description: Manufacturer URL; ComponentLink1URL: http://www.maximintegrated.com/; ComponentLink2Description: Datasheet; ComponentLink2URL: http://datasheets.maximintegrated.com/en/ds/MAX6643-MAX6645.pdf; ComponentLink3Description: Package Specification; ComponentLink3URL: http://pdfserv.maximintegrated.com/package_dwgs/21-0055.PDF
footprint MAXM-E16+1_N (SOP, 16-Leads, Body 4.9x3.89mm, Pitch 0.635mm, IPC Medium Density)
footprint MAXM-E16+1_L (SOP, 16-Leads, Body 4.9x3.89mm, Pitch 0.635mm, IPC High Density)
footprint MAXM-E16+1_M (SOP, 16-Leads, Body 4.9x3.89mm, Pitch 0.635mm, IPC Low Density)
pins: 1 TH1 (in) "High-Temperature Threshold Inputs. Connect to VDD, GND, or leave unconnected to select the upper fan-control trip temperature (THIGH), in 5degreesC increments. See Table 1.", 2 TL2 (in) "Low-Temperature Threshold Inputs. Connect to VDD, GND, or leave unconnected to select the lower fan-control trip temperature (TLOW), in 5degreesC increments. See Table 2.", 3 TL1 (in) "Low-Temperature Threshold Inputs. Connect to VDD, GND, or leave unconnected to select the lower fan-control trip temperature (TLOW), in 5degreesC increments. See Table 2.", 4 ~{FANFAIL} (oc) "Fan-Fail Alarm Output. F\A\N\F\A\I\L\ is an active-low, open-drain output. If the FAN_IN_ detects a fan failure, the F\A\N\F\A\I\L\ output asserts low.", 5 TACHSET (in) "FAN_IN_ Control Input. TACHSET controls what type of fan-fail condition is being detected. Connect TACHSET to VDD, GND, or leave floating to set locked rotor, current sense, or tachometer configurations (see Table 3).", 6 FULLSPD (in) "Active-High Logic Input. When pulled high, the fan runs at 100% duty cycle.", 7 GND (power) "Ground", 8 DXP "Combined Current Source and A/D Positive Input for Remote   Diode. Connect to anode of remote diode-connected    temperature-sensing transistor. Connect to GND i f no remote    diode is used. Place a 2200pF capacitor between (See Datasheet)", 9 ~{OT} (oc) "Active-Low, Open-Drain Overtemperature Output. When O\T\ threshold is exceeded, O\T\ pulls low.", 10 FAN_IN2 (in) "Fan- Sense Input. FAN_ IN_can be configured to monitor either a fan’ s log ic- level locked - rotor output, tachometer output, or senser esistor waveform to d etect fan fai lure. The MAX6643’ s FAN_IN_input can monitor only (See Datasheet)", 11 FAN_IN1 (in) "Fan- Sense Input. FAN_ IN_can be configured to monitor either a fan’ s log ic- level locked - rotor output, tachometer output, or senser esistor waveform to d etect fan fai lure. The MAX6643’ s FAN_IN_input can monitor only (See Datasheet)", 12 PWM_OUT (out) "PWM Output for Driving External Power Transistor. Connect to the gate of an n-channel MOSFET or to the base of an npn. PWM_OUT requires a pullup resistor. The pullup resistor can be connected to a supply voltage as high as 5.(See Datasheet)", 13 OT2 (in) "Overtemperature Threshold Inputs. Connect to VDD, GND, or leave unconnected to select the upper-limit O\T\ fault output trip temperature, in 5 degC increments. See Table 4.", 14 OT1 (in) "Overtemperature Threshold Inputs. Connect to VDD, GND, or leave unconnected to select the upper-limit O\T\ fault output trip temperature, in 5 degC increments. See Table 4.", 15 TH2 (in) "High-Temperature Threshold Inputs. Connect to VDD, GND, or leave unconnected to select the upper fan-control trip temperature (THIGH), in 5degreesC increments. See Table 1.", 16 VDD (power) "Power-Supply Input. 3.3V nominal. Bypass VDD to GND with a 0.1uF capacitor."